# Altium footprint library Modules.PcbLib: 2 footprints
Each footprint in its own frame and in the unit in brackets; x right, y up, seen from the top. Pads: shape width x height; smd on the part's side, far side on the other; paste and mask are expansions set on the pad; w line width, h text height; cw(c..) or ccw(c..) is an arc to the next point about the centre after c.
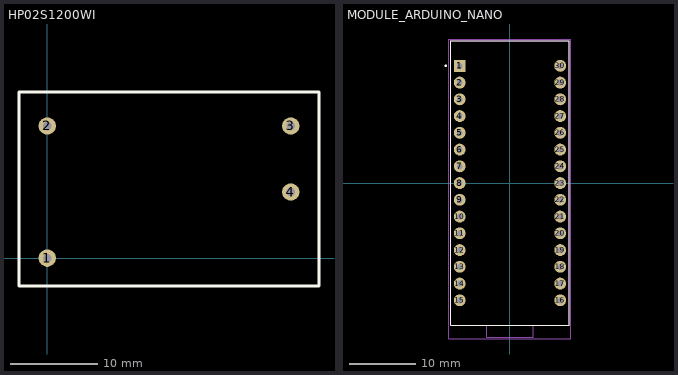
[diagram p0: the footprints below, top view; thin cyan lines are the x and y axes]

## HP02S1200WI [mm]
pads (4):
  round 2 hole 1: 1(0,0) 2(0,15.2) 3(28,15.2) 4(28,7.6)
Top Overlay:
  lines w0.3: -3.25,-3.2 31.25,-3.2 31.25,19.1 -3.25,19.1 -3.25,-3.2
3D body: height 15, standoff 0, extent -3.302,-3.175 31.242,19.05

## MODULE_ARDUINO_NANO [mm]
pads (30):
  rect 1.8x1.8 / inner round 1.8 / far side rect 1.8x1.8 hole 0.9: 1(-7.62,17.78)
  round 1.8 hole 0.9: 2(-7.62,15.24) 3(-7.62,12.7) 4(-7.62,10.16) 5(-7.62,7.62) 6(-7.62,5.08) 7(-7.62,2.54) 8(-7.62,0) 9(-7.62,-2.54) 10(-7.62,-5.08) 11(-7.62,-7.62) 12(-7.62,-10.16) 13(-7.62,-12.7) 14(-7.62,-15.24) 15(-7.62,-17.78) 16(7.62,-17.78) 17(7.62,-15.24) 18(7.62,-12.7) 19(7.62,-10.16) 20(7.62,-7.62) 21(7.62,-5.08) 22(7.62,-2.54) 23(7.62,0) 24(7.62,2.54) 25(7.62,5.08) 26(7.62,7.62) 27(7.62,10.16) 28(7.62,12.7) 29(7.62,15.24) 30(7.62,17.78)
Top Overlay:
  circle w0.2: c-9.75,17.78 r0.1
  lines w0.127: -9,-21.6 9,-21.6 9,21.6 -9,21.6 -9,-21.6
Mechanical 13:
  circle w0.2: c-9.75,17.78 r0.1
  lines w0.127: -3.5,-21.6 3.5,-21.6 ; -3.5,-21.6 -9,-21.6 -9,21.6 9,21.6 9,-21.6 3.5,-21.6 ; -3.5,-21.6 -3.5,-23.4 3.5,-23.4 3.5,-21.6
Mechanical 15:
  lines w0.05: -9.25,-23.65 -9.25,21.85 9.25,21.85 9.25,-23.65 -9.25,-23.65
3D body: height 12.6, standoff -6, extent -9,-23.4 9,21.6